# Altium schematic symbol library 2021-03-10_04-17-06.SchLib: 1 symbol
Pins are listed as number, name and electrical type; pins without a type are passive.

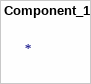
[diagram p0: symbol Component_1]

## Component_1
designator *  (value not drawn)